# EAGLE library part PIC10F200T (library PCB_KioskMB_r3.3-05)
IC MCU Flash 256B of FLASH
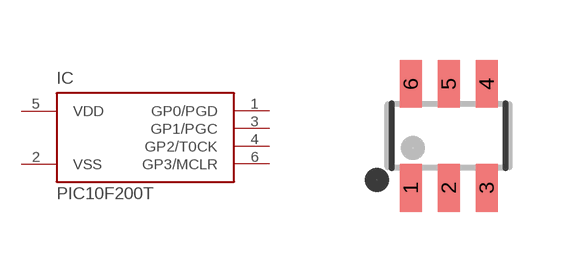
[diagram p17: symbol with the pads of SOT23-6; footprint SOT23-6]

Designator prefix IC

## PIC10F200T-I/OT  [SOT23-6]
1  GP0/PGD
2  VSS  pwr
3  GP1/PGC
4  GP2/T0CK
5  VDD  pwr
6  GP3/MCLR

## Footprint SOT23-6 (pad centres in mm)
smd 0.55 x 1.2: 1 -0.95,-1.3; 2 0,-1.3; 3 0.95,-1.3; 4 0.95,1.3; 5 0,1.3; 6 -0.95,1.3